# Altium footprint library Components.PcbLib: 9 footprints
Each footprint in its own frame and in the unit in brackets; x right, y up, seen from the top. Pads: shape width x height; smd on the part's side, far side on the other; paste and mask are expansions set on the pad; w line width, h text height; cw(c..) or ccw(c..) is an arc to the next point about the centre after c.
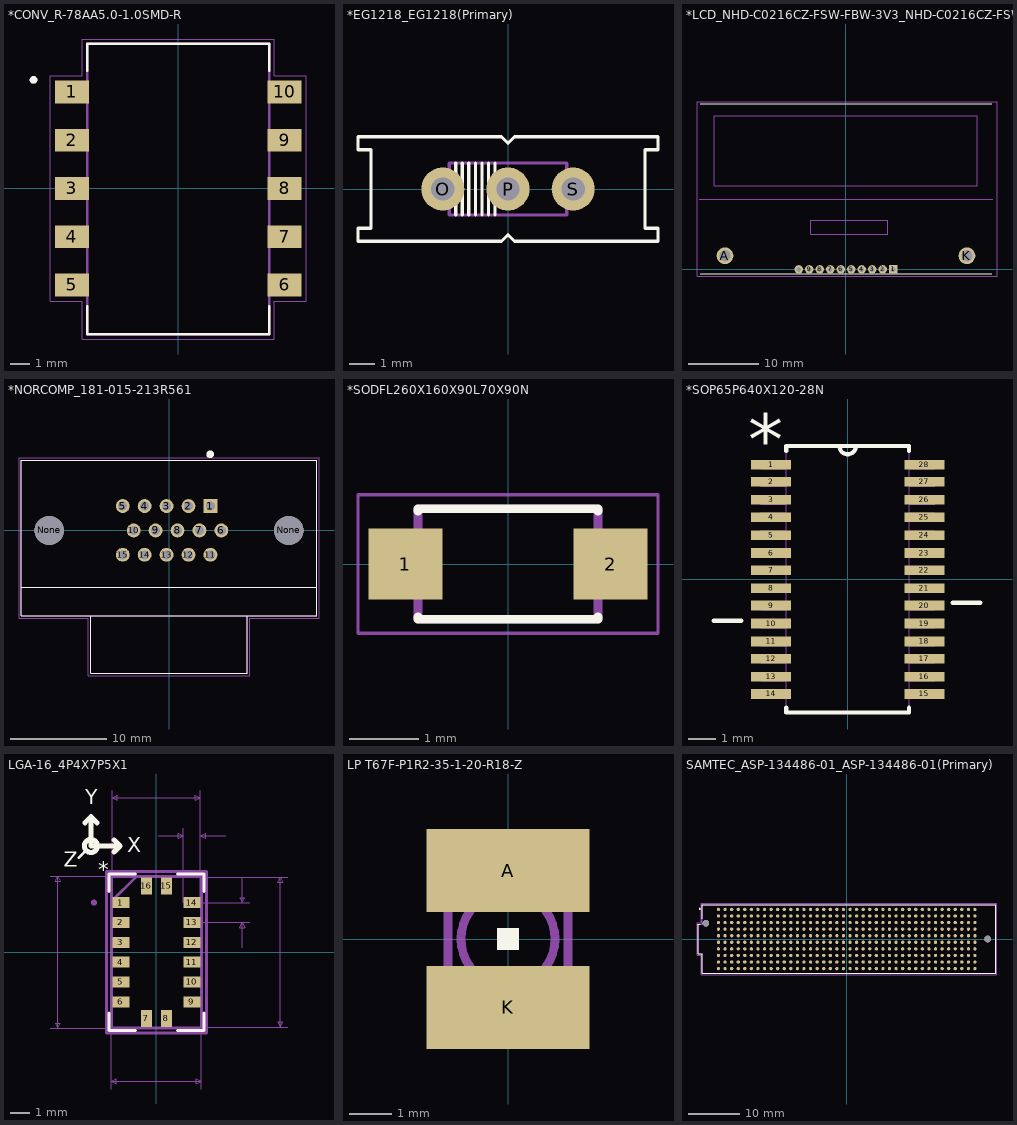
[diagram p0: the footprints below, top view; thin cyan lines are the x and y axes]

## *CONV_R-78AA5.0-1.0SMD-R [mm]
pads (10):
  rect 1.8x1.2 smd: 1(-5.6,5.08) 2(-5.6,2.54) 3(-5.6,0) 4(-5.6,-2.54) 5(-5.6,-5.08) 6(5.6,-5.08) 7(5.6,-2.54) 8(5.6,0) 9(5.6,2.54) 10(5.6,5.08)
Top Overlay:
  circle w0.2: c-7.62,5.715 r0.1
  lines w0.127: -4.8,-6.2 -4.8,-7.68 4.8,-7.68 4.8,-6.2 ; -4.8,6.2 -4.8,7.62 4.8,7.62 4.8,6.2
Mechanical 4:
  circle w0.2: c-7.62,5.715 r0.1
  circle w0.2: c-7.62,5.715 r0.1
  lines w0.127: -4.8,-7.68 4.8,-7.68 ; -4.8,-7.68 -4.8,7.62 ; -4.8,-7.68 4.8,-7.68 ; -4.8,-7.68 -4.8,7.62 ; -4.8,7.62 4.8,7.62 ; -4.8,7.62 4.8,7.62 ; 4.8,-7.68 4.8,7.62 ; 4.8,-7.68 4.8,7.62
Mechanical 16:
  lines w0.05: -6.75,-5.93 -5.05,-5.93 -5.05,-7.93 5.05,-7.93 5.05,-5.93 6.75,-5.93 6.75,5.93 5.05,5.93 5.05,7.87 -5.05,7.87 -5.05,5.93 -6.75,5.93 -6.75,-5.93

## *EG1218_EG1218(Primary) [mil]
pads (3):
  round 66 hole 35.43: O(-100,0) P(0,0) S(100,0)
Top Overlay:
  lines w5: -80,-40 -80,40 ; -70,-40 -70,40 ; -60,-40 -60,40 ; -50,-40 -50,40 ; -40,-40 -40,40 ; -30,-40 -30,40 ; -20,-40 -20,40 ; -230,-80 -10,-80 0,-70 10,-80 230,-80 230,-60 210,-60 210,60 230,60 230,80 10,80 0,70 -10,80 -230,80 -230,60 -210,60 -210,-60 -230,-60 -230,-80
Mechanical 4:
  lines w5: -90,-40 90,-40 ; -90,-40 -90,40 ; -90,-40 90,-40 ; -90,-40 -90,40 ; -90,40 90,40 ; -90,40 90,40 ; 90,-40 90,40 ; 90,-40 90,40

## *LCD_NHD-C0216CZ-FSW-FBW-3V3_NHD-C0216CZ-FSW-FBW-3V3(Primary) [mm]
pads (12):
  rect 1.208x1.208 hole 0.7: 1(6.75,0)
  round 1.208 hole 0.7: 2(5.25,0) 3(3.75,0) 4(2.25,0) 5(0.75,0) 6(-0.75,0) 7(-2.25,0) 8(-3.75,0) 9(-5.25,0) 10(-6.75,0)
  round 2.4 hole 1.6: A(-17.3,1.95) K(17.3,1.95)
Top Overlay:
  lines w0.127: -20.85,-0.6 20.85,-0.6 ; -20.85,23.7 20.85,23.7
Mechanical 4:
  lines w0.127: -18.8,12 -18.8,22 ; -18.8,12 18.8,12 ; -18.8,12 -18.8,22 ; -18.8,12 18.8,12 ; -18.8,22 18.8,22 ; -18.8,22 18.8,22 ; -5,5 -5,7 ; -5,5 6,5 ; -5,5 -5,7 ; -5,5 6,5 ; -5,7 6,7 ; -5,7 6,7 ; 6,5 6,7 ; 6,5 6,7 ; 18.8,12 18.8,22 ; 18.8,12 18.8,22 ; -21,10 21,10 -21,10
Mechanical 16:
  lines w0.127: -21.3,-1 21.6,-1 21.6,24 -21.3,24 -21.3,-1
3D body "NHD-C0216CZ-FSW-FBW-3V3--3DModel-STEP-56544.STEP": height 4.1, standoff -3, extent -20.7,-0.711 20.7,23.589

## *NORCOMP_181-015-213R561 [mil]
pads (17):
  rect 57x57 hole 37: 1(170,100)
  round 57 hole 37: 2(80,100) 3(-10,100) 4(-100,100) 5(-190,100) 6(215,0) 7(125,0) 8(35,0) 9(-55,0) 10(-145,0) 11(170,-100) 12(80,-100) 13(-10,-100) 14(-100,-100) 15(-190,-100)
  round 120 hole 120 unplated: None(-492,0) None(492,0)
Top Overlay:
  circle w15.75: c169.29,312.83 r7.87
  lines w5: -606.3,-233.86 606.3,-233.86 ; -606.3,-233.86 -606.3,-350 -321.65,-350 ; -606.3,-233.86 -606.3,288.98 606.3,288.98 606.3,-233.86 ; -321.65,-350 -321.65,-586.61 321.65,-586.61 321.65,-350 ; -321.65,-350 321.65,-350 ; 321.65,-350 606.3,-350 606.3,-233.86
Mechanical 4:
  lines w5: -606.3,-350 -606.3,-233.86 ; -606.3,-350 -321.65,-350 ; -606.3,-350 -606.3,-233.86 ; -606.3,-350 -321.65,-350 ; -606.3,-233.86 606.3,-233.86 ; -606.3,-233.86 -606.3,288.98 ; -606.3,-233.86 606.3,-233.86 ; -606.3,-233.86 -606.3,288.98 ; -606.3,288.98 606.3,288.98 ; -606.3,288.98 606.3,288.98 ; -321.65,-586.61 321.65,-586.61 ; -321.65,-586.61 -321.65,-350 ; -321.65,-586.61 321.65,-586.61 ; -321.65,-586.61 -321.65,-350 ; -321.65,-350 321.65,-350 ; -321.65,-350 321.65,-350 ; 321.65,-586.61 321.65,-350 ; 321.65,-586.61 321.65,-350 ; 321.65,-350 606.3,-350 ; 321.65,-350 606.3,-350 ; 606.3,-350 606.3,-233.86 ; 606.3,-350 606.3,-233.86 ; 606.3,-233.86 606.3,288.98 ; 606.3,-233.86 606.3,288.98
Mechanical 16:
  lines w1.97: -616.14,-359.84 -616.14,298.82 616.14,298.82 616.14,-359.84 331.5,-359.84 331.5,-596.46 -331.5,-596.46 -331.5,-359.84 -616.14,-359.84

## *SODFL260X160X90L70X90N [mm]
pads (2):
  rect 1.07x1.03 smd: 1(-1.485,0) 2(1.485,0)
Top Overlay:
  lines w0.127: -1.3,-0.762 -1.3,-0.8 1.3,-0.8 1.3,-0.762 ; -1.3,0.762 -1.3,0.8 1.3,0.8 1.3,0.762
Mechanical 4:
  lines w0.127: -1.3,-0.8 -1.3,0.8 ; -1.3,-0.8 1.3,-0.8 ; -1.3,-0.8 -1.3,0.8 ; -1.3,-0.8 1.3,-0.8 ; -1.3,0.8 1.3,0.8 ; -1.3,0.8 1.3,0.8 ; 1.3,-0.8 1.3,0.8 ; 1.3,-0.8 1.3,0.8
Mechanical 16:
  lines w0.05: -2.17,-1 -2.17,1 2.17,1 2.17,-1 -2.17,-1

## *SOP65P640X120-28N [mil]
pads (28):
  rect 58x14 smd: 1(-111,166) 2(-111,141) 3(-111,115) 4(-111,90) 5(-111,64) 6(-111,38) 7(-111,13) 8(-111,-13) 9(-111,-38) 10(-111,-64) 11(-111,-90) 12(-111,-115) 13(-111,-141) 14(-111,-166) 15(111,-166) 16(111,-141) 17(111,-115) 18(111,-90) 19(111,-64) 20(111,-38) 21(111,-13) 22(111,13) 23(111,38) 24(111,64) 25(111,90) 26(111,115) 27(111,141) 28(111,166)
Top Overlay:
  lines w6: -194,-60 -154,-60 ; -89,-186 -89,-193 89,-193 89,-186 ; -89,186 -89,193 -12,193 ; 89,186 89,193 12,193 ; 152,-34 192,-34 ; -12,193 ccw(c0,193) 12,193 ; -12,193 12,193
  text "*" at -144.28,165.5 h73.82
Mechanical 4:
  drawing of 238 lines, arcs and shapes, not listed
  text "*" at -144.19,165.39 h73.82
  text "*" at -144.19,165.39 h73.82
3D body "RU_28.step": height 47.09, standoff 0, extent -126.98,-191.99 124.99,194

## LGA-16_4P4X7P5X1 [mil]
pads (16):
  rect 34x22 smd: 1(-70.5,98.43) 2(-70.5,59.06) 3(-70.5,19.68) 4(-70.5,-19.68) 5(-70.5,-59.06) 6(-70.5,-98.43) 9(70.5,-98.43) 10(70.5,-59.06) 11(70.5,-19.68) 12(70.5,19.68) 13(70.5,59.06) 14(70.5,98.43)
  rect 22x34 smd: 7(-19.68,-131.5) 8(19.68,-131.5) 15(19.68,131.5) 16(-19.68,131.5)
Top Overlay:
  circle w10: c-130,211 r13
  region: -123,304
  lines w5: -154,188 -143,199
  lines w6: -94.5,-120.5 -94.5,-155.5 -41.76,-155.5 ; -94.5,120.5 -94.5,155.5 -41.76,155.5 ; 41.76,-155.5 94.5,-155.5 94.5,-120.5 ; 41.76,155.5 94.5,155.5 94.5,120.5
  lines w10: -142,257 -130,269 ; -118,257 -130,269 ; -84,199 -72,211 ; -84,223 -72,211 ; -130,269 -130,211 -72,211
  text "Z" at -184,170 h30
  text "X" at -58,198 h30
  text "Y" at -141,294 h30
  text "*" at -115,148.61 h31.25
Mechanical 1:
  lines w1: -89.5,100.5 -39.5,150.5 ; -89.5,-150.5 89.5,-150.5 89.5,150.5 -89.5,150.5 -89.5,-150.5
  text "*" at -115,148.61 h31.25
Mechanical 16:
  circle w6: c-124,98.43 r3
  lines w1: -210.5,-150.5 89.5,-150.5 ; -210.5,150.5 89.5,150.5 89.5,-271.5 ; -89.5,-271.5 -89.5,150.5 ; -87.5,98.43 -87.5,321.5 ; 3.5,231.5 53.5,231.5 ; 19.68,-148.5 260.5,-148.5 ; 19.68,148.5 260.5,148.5 ; 53.5,98.43 53.5,246.5 ; 70.5,59.06 185.5,59.06 ; 70.5,98.43 185.5,98.43 ; 87.5,246.5 87.5,98.43 87.5,321.5 ; 137.5,231.5 87.5,231.5 ; 170.5,9.06 170.5,59.06 ; 170.5,148.43 170.5,98.43 ; -195.5,-150.5 -195.5,150.5 ; -195.5,-150.5 -200.5,-140.5 -190.5,-140.5 -195.5,-150.5 ; -195.5,150.5 -200.5,140.5 -190.5,140.5 -195.5,150.5 ; -89.5,-256.5 89.5,-256.5 ; -89.5,-256.5 -79.5,-251.5 -79.5,-261.5 -89.5,-256.5 ; -87.5,306.5 87.5,306.5 ; -87.5,306.5 -77.5,311.5 -77.5,301.5 -87.5,306.5 ; 53.5,231.5 43.5,236.5 43.5,226.5 53.5,231.5 ; 87.5,231.5 97.5,236.5 97.5,226.5 87.5,231.5 ; 87.5,306.5 77.5,311.5 77.5,301.5 87.5,306.5 ; 89.5,-256.5 79.5,-251.5 79.5,-261.5 89.5,-256.5 ; 170.5,59.06 165.5,49.06 175.5,49.06 170.5,59.06 ; 170.5,98.43 165.5,108.43 175.5,108.43 170.5,98.43 ; 245.5,-148.5 245.5,148.5 ; 245.5,-148.5 240.5,-138.5 250.5,-138.5 245.5,-148.5 ; 245.5,148.5 240.5,138.5 250.5,138.5 245.5,148.5
  lines w6: -89.5,100.5 -39.5,150.5 ; -99.5,-160.5 -99.5,-119.43 -99.5,119.43 -99.5,160.5 -40.69,160.5 40.69,160.5 99.5,160.5 99.5,119.43 99.5,-119.43 99.5,-160.5 40.69,-160.5 -40.69,-160.5 -99.5,-160.5 ; -89.5,-150.5 -89.5,150.5 89.5,150.5 89.5,-150.5 -89.5,-150.5
  text "Default Padstyle: RX22Y34D0T" at 0,-362.5 h31.25
  text "Alt 1 Padstyle: OX60Y90D30P" at 73,-531.5 h31.25
  text "Alt 2 Padstyle: OX90Y60D30P" at 73,-591.5 h31.25
  text "0.039in/1mm" at 190.5,78.74 h15.62
  text "0.034in/0.864mm" at 70.5,251.5 h15.62
  text "0.175in/4.445mm" at 0,326.5 h15.62
  text "0.297in/7.544mm" at 265.5,0 h15.62
  text "0.301in/7.645mm" at -215.5,0 h15.62
  text "0.179in/4.547mm" at 0,-276.5 h15.62
3D body "LGA-16_4p4x7p5x1mm.step": height 39.09, standoff 0, extent -89.48,-150.51 89.5,150.52

## LP T67F-P1R2-35-1-20-R18-Z [mil]
pads (2):
  rect 150x76 smd: A(0,63) K(0,-63)
Top Overlay:
  region: -9.84,9.84 9.84,9.84 9.84,-9.84 -9.84,-9.84
Mechanical 4:
  circle w8: c0,0 r43.31
  circle w8: c0,0 r43.31
  lines w4: -43.31,-70.87 43.31,-70.87 ; -43.31,-70.87 -43.31,-62.99 -43.31,-70.87 ; -43.31,-70.87 43.31,-70.87 ; -43.31,70.87 43.31,70.87 ; -43.31,70.87 -43.31,62.99 -43.31,70.87 ; -43.31,70.87 43.31,70.87 ; 43.31,-70.87 43.31,-62.99 43.31,-70.87 ; 43.31,70.87 43.31,62.99 43.31,70.87
  lines w8: -55.12,-62.99 -43.31,-62.99 ; -55.12,-62.99 -55.12,-41.34 ; -55.12,-62.99 -43.31,-62.99 ; -55.12,-62.99 -55.12,-41.34 ; -55.12,-41.34 -55.12,62.99 ; -55.12,-41.34 -33.46,-62.99 ; -55.12,-41.34 -55.12,62.99 ; -55.12,-41.34 -33.46,-62.99 ; -55.12,62.99 -43.31,62.99 ; -55.12,62.99 -43.31,62.99 ; -43.31,-62.99 -33.46,-62.99 ; -43.31,-62.99 -33.46,-62.99 ; -43.31,62.99 43.31,62.99 ; -43.31,62.99 43.31,62.99 ; -33.46,-62.99 43.31,-62.99 ; -33.46,-62.99 43.31,-62.99 ; 43.31,-62.99 55.12,-62.99 ; 43.31,-62.99 55.12,-62.99 ; 43.31,62.99 55.12,62.99 ; 43.31,62.99 55.12,62.99 ; 55.12,-62.99 55.12,62.99 ; 55.12,-62.99 55.12,62.99
  text "K" at 5,-114.84 h73.82
  text "A" at 5,85.16 h73.82
  text "K" at 5,-114.84 h73.82
  text "A" at 5,85.16 h73.82

## SAMTEC_ASP-134486-01_ASP-134486-01(Primary) [mm]
pads (402):
  round 0.64 smd: A1(-24.765,5.715) A2(-23.495,5.715) A3(-22.225,5.715) A4(-20.955,5.715) A5(-19.685,5.715) A6(-18.415,5.715) A7(-17.145,5.715) A8(-15.875,5.715) A9(-14.605,5.715) A10(-13.335,5.715) A11(-12.065,5.715) A12(-10.795,5.715) A13(-9.525,5.715) A14(-8.255,5.715) A15(-6.985,5.715) A16(-5.715,5.715) A17(-4.445,5.715) A18(-3.175,5.715) A19(-1.905,5.715) A20(-0.635,5.715) A21(0.635,5.715) A22(1.905,5.715) A23(3.175,5.715) A24(4.445,5.715) A25(5.715,5.715) A26(6.985,5.715) A27(8.255,5.715) A28(9.525,5.715) A29(10.795,5.715) A30(12.065,5.715) A31(13.335,5.715) A32(14.605,5.715) A33(15.875,5.715) A34(17.145,5.715) A35(18.415,5.715) A36(19.685,5.715) A37(20.955,5.715) A38(22.225,5.715) A39(23.495,5.715) A40(24.765,5.715) B1(-24.765,4.445) B2(-23.495,4.445) B3(-22.225,4.445) B4(-20.955,4.445) B5(-19.685,4.445) B6(-18.415,4.445) B7(-17.145,4.445) B8(-15.875,4.445) B9(-14.605,4.445) B10(-13.335,4.445) B11(-12.065,4.445) B12(-10.795,4.445) B13(-9.525,4.445) B14(-8.255,4.445) B15(-6.985,4.445) B16(-5.715,4.445) B17(-4.445,4.445) B18(-3.175,4.445) B19(-1.905,4.445) B20(-0.635,4.445) B21(0.635,4.445) B22(1.905,4.445) B23(3.175,4.445) B24(4.445,4.445) B25(5.715,4.445) B26(6.985,4.445) B27(8.255,4.445) B28(9.525,4.445) B29(10.795,4.445) B30(12.065,4.445) B31(13.335,4.445) B32(14.605,4.445) B33(15.875,4.445) B34(17.145,4.445) B35(18.415,4.445) B36(19.685,4.445) B37(20.955,4.445) B38(22.225,4.445) B39(23.495,4.445) B40(24.765,4.445) C1(-24.765,3.175) C2(-23.495,3.175) C3(-22.225,3.175) C4(-20.955,3.175) C5(-19.685,3.175) C6(-18.415,3.175) C7(-17.145,3.175) C8(-15.875,3.175) C9(-14.605,3.175) C10(-13.335,3.175) C11(-12.065,3.175) C12(-10.795,3.175) C13(-9.525,3.175) C14(-8.255,3.175) C15(-6.985,3.175) C16(-5.715,3.175) C17(-4.445,3.175) C18(-3.175,3.175) C19(-1.905,3.175) C20(-0.635,3.175) C21(0.635,3.175) C22(1.905,3.175) C23(3.175,3.175) C24(4.445,3.175) C25(5.715,3.175) C26(6.985,3.175) C27(8.255,3.175) C28(9.525,3.175) C29(10.795,3.175) C30(12.065,3.175) C31(13.335,3.175) C32(14.605,3.175) C33(15.875,3.175) C34(17.145,3.175) C35(18.415,3.175) C36(19.685,3.175) C37(20.955,3.175) C38(22.225,3.175) C39(23.495,3.175) C40(24.765,3.175) D1(-24.765,1.905) D2(-23.495,1.905) D3(-22.225,1.905) D4(-20.955,1.905) D5(-19.685,1.905) D6(-18.415,1.905) D7(-17.145,1.905) D8(-15.875,1.905) D9(-14.605,1.905) D10(-13.335,1.905) D11(-12.065,1.905) D12(-10.795,1.905) D13(-9.525,1.905) D14(-8.255,1.905) D15(-6.985,1.905) D16(-5.715,1.905) D17(-4.445,1.905) D18(-3.175,1.905) D19(-1.905,1.905) D20(-0.635,1.905) D21(0.635,1.905) D22(1.905,1.905) D23(3.175,1.905) D24(4.445,1.905) D25(5.715,1.905) D26(6.985,1.905) D27(8.255,1.905) D28(9.525,1.905) D29(10.795,1.905) D30(12.065,1.905) D31(13.335,1.905) D32(14.605,1.905) D33(15.875,1.905) D34(17.145,1.905) D35(18.415,1.905) D36(19.685,1.905) D37(20.955,1.905) D38(22.225,1.905) D39(23.495,1.905) D40(24.765,1.905) E1(-24.765,0.635) E2(-23.495,0.635) E3(-22.225,0.635) E4(-20.955,0.635) E5(-19.685,0.635) E6(-18.415,0.635) E7(-17.145,0.635) E8(-15.875,0.635) E9(-14.605,0.635) E10(-13.335,0.635) E11(-12.065,0.635) E12(-10.795,0.635) E13(-9.525,0.635) E14(-8.255,0.635) E15(-6.985,0.635) E16(-5.715,0.635) E17(-4.445,0.635) E18(-3.175,0.635) E19(-1.905,0.635) E20(-0.635,0.635) E21(0.635,0.635) E22(1.905,0.635) E23(3.175,0.635) E24(4.445,0.635) E25(5.715,0.635) E26(6.985,0.635) E27(8.255,0.635) E28(9.525,0.635) E29(10.795,0.635) E30(12.065,0.635) E31(13.335,0.635) E32(14.605,0.635) E33(15.875,0.635) E34(17.145,0.635) E35(18.415,0.635) E36(19.685,0.635) E37(20.955,0.635) E38(22.225,0.635) E39(23.495,0.635) E40(24.765,0.635) F1(-24.765,-0.635) F2(-23.495,-0.635) F3(-22.225,-0.635) F4(-20.955,-0.635) F5(-19.685,-0.635) F6(-18.415,-0.635) F7(-17.145,-0.635) F8(-15.875,-0.635) F9(-14.605,-0.635) F10(-13.335,-0.635) F11(-12.065,-0.635) F12(-10.795,-0.635) F13(-9.525,-0.635) F14(-8.255,-0.635) F15(-6.985,-0.635) F16(-5.715,-0.635) F17(-4.445,-0.635) F18(-3.175,-0.635) F19(-1.905,-0.635) F20(-0.635,-0.635) F21(0.635,-0.635) F22(1.905,-0.635) F23(3.175,-0.635) F24(4.445,-0.635) F25(5.715,-0.635) F26(6.985,-0.635) F27(8.255,-0.635) F28(9.525,-0.635) F29(10.795,-0.635) F30(12.065,-0.635) F31(13.335,-0.635) F32(14.605,-0.635) F33(15.875,-0.635) F34(17.145,-0.635) F35(18.415,-0.635) F36(19.685,-0.635) F37(20.955,-0.635) F38(22.225,-0.635) F39(23.495,-0.635) F40(24.765,-0.635) G1(-24.765,-1.905) G2(-23.495,-1.905) G3(-22.225,-1.905) G4(-20.955,-1.905) G5(-19.685,-1.905) G6(-18.415,-1.905) G7(-17.145,-1.905) G8(-15.875,-1.905) G9(-14.605,-1.905) G10(-13.335,-1.905) G11(-12.065,-1.905) G12(-10.795,-1.905) G13(-9.525,-1.905) G14(-8.255,-1.905) G15(-6.985,-1.905) G16(-5.715,-1.905) G17(-4.445,-1.905) G18(-3.175,-1.905) G19(-1.905,-1.905) G20(-0.635,-1.905) G21(0.635,-1.905) G22(1.905,-1.905) G23(3.175,-1.905) G24(4.445,-1.905) G25(5.715,-1.905) G26(6.985,-1.905) G27(8.255,-1.905) G28(9.525,-1.905) G29(10.795,-1.905) G30(12.065,-1.905) G31(13.335,-1.905) G32(14.605,-1.905) G33(15.875,-1.905) G34(17.145,-1.905) G35(18.415,-1.905) G36(19.685,-1.905) G37(20.955,-1.905) G38(22.225,-1.905) G39(23.495,-1.905) G40(24.765,-1.905) H1(-24.765,-3.175) H2(-23.495,-3.175) H3(-22.225,-3.175) H4(-20.955,-3.175) H5(-19.685,-3.175) H6(-18.415,-3.175) H7(-17.145,-3.175) H8(-15.875,-3.175) H9(-14.605,-3.175) H10(-13.335,-3.175) H11(-12.065,-3.175) H12(-10.795,-3.175) H13(-9.525,-3.175) H14(-8.255,-3.175) H15(-6.985,-3.175) H16(-5.715,-3.175) H17(-4.445,-3.175) H18(-3.175,-3.175) H19(-1.905,-3.175) H20(-0.635,-3.175) H21(0.635,-3.175) H22(1.905,-3.175) H23(3.175,-3.175) H24(4.445,-3.175) H25(5.715,-3.175) H26(6.985,-3.175) H27(8.255,-3.175) H28(9.525,-3.175) H29(10.795,-3.175) H30(12.065,-3.175) H31(13.335,-3.175) H32(14.605,-3.175) H33(15.875,-3.175) H34(17.145,-3.175) H35(18.415,-3.175) H36(19.685,-3.175) H37(20.955,-3.175) H38(22.225,-3.175) H39(23.495,-3.175) H40(24.765,-3.175) J1(-24.765,-4.445) J2(-23.495,-4.445) J3(-22.225,-4.445) J4(-20.955,-4.445) J5(-19.685,-4.445) J6(-18.415,-4.445) J7(-17.145,-4.445) J8(-15.875,-4.445) J9(-14.605,-4.445) J10(-13.335,-4.445) J11(-12.065,-4.445) J12(-10.795,-4.445) J13(-9.525,-4.445) J14(-8.255,-4.445) J15(-6.985,-4.445) J16(-5.715,-4.445) J17(-4.445,-4.445) J18(-3.175,-4.445) J19(-1.905,-4.445) J20(-0.635,-4.445) J21(0.635,-4.445) J22(1.905,-4.445) J23(3.175,-4.445) J24(4.445,-4.445) J25(5.715,-4.445) J26(6.985,-4.445) J27(8.255,-4.445) J28(9.525,-4.445) J29(10.795,-4.445) J30(12.065,-4.445) J31(13.335,-4.445) J32(14.605,-4.445) J33(15.875,-4.445) J34(17.145,-4.445) J35(18.415,-4.445) J36(19.685,-4.445) J37(20.955,-4.445) J38(22.225,-4.445) J39(23.495,-4.445) J40(24.765,-4.445) K1(-24.765,-5.715) K2(-23.495,-5.715) K3(-22.225,-5.715) K4(-20.955,-5.715) K5(-19.685,-5.715) K6(-18.415,-5.715) K7(-17.145,-5.715) K8(-15.875,-5.715) K9(-14.605,-5.715) K10(-13.335,-5.715) K11(-12.065,-5.715) K12(-10.795,-5.715) K13(-9.525,-5.715) K14(-8.255,-5.715) K15(-6.985,-5.715) K16(-5.715,-5.715) K17(-4.445,-5.715) K18(-3.175,-5.715) K19(-1.905,-5.715) K20(-0.635,-5.715) K21(0.635,-5.715) K22(1.905,-5.715) K23(3.175,-5.715) K24(4.445,-5.715) K25(5.715,-5.715) K26(6.985,-5.715) K27(8.255,-5.715) K28(9.525,-5.715) K29(10.795,-5.715) K30(12.065,-5.715) K31(13.335,-5.715) K32(14.605,-5.715) K33(15.875,-5.715) K34(17.145,-5.715) K35(18.415,-5.715) K36(19.685,-5.715) K37(20.955,-5.715) K38(22.225,-5.715) K39(23.495,-5.715) K40(24.765,-5.715)
  round 1.27 hole 1.27 unplated: None(-27.189,3.05) None(27.191,0)
Top Overlay:
  circle w0.2: c-28.4,5.8 r0.1
  lines w0.2: -28.3,2.85 -28.665,2.85 -28.665,-2.85 -27.865,-2.85 -27.865,-6.615 28.765,-6.615 28.765,6.615 -27.865,6.615 -27.865,3.9
Top Paste:
  drawing of 400 lines, arcs and shapes, not listed
Mechanical 4:
  circle w0.2: c-28.4,5.8 r0.1
  circle w0.2: c-28.4,5.8 r0.1
  lines w0.1: -28.665,-2.85 -27.865,-2.85 ; -28.665,-2.85 -28.665,2.85 ; -28.665,-2.85 -27.865,-2.85 ; -28.665,-2.85 -28.665,2.85 ; -28.665,2.85 -27.865,2.85 ; -28.665,2.85 -27.865,2.85 ; -27.865,-6.615 28.765,-6.615 ; -27.865,-6.615 -27.865,-2.85 ; -27.865,-6.615 28.765,-6.615 ; -27.865,-6.615 -27.865,-2.85 ; -27.865,2.85 -27.865,6.615 ; -27.865,2.85 -27.865,6.615 ; -27.865,6.615 28.765,6.615 ; -27.865,6.615 28.765,6.615 ; 28.765,-6.615 28.765,6.615 ; 28.765,-6.615 28.765,6.615
Mechanical 16:
  lines w0.05: -28.915,-3.1 -28.115,-3.1 -28.115,-6.865 29.015,-6.865 29.015,6.865 -28.115,6.865 -28.115,3.1 -28.915,3.1 -28.915,-3.1